# Altium footprint library Package_TO_SOT_THT.PcbLib: 236 footprints (part 12 of 15)
Each footprint in its own frame and in the unit in brackets; x right, y up, seen from the top. Pads: shape width x height; smd on the part's side, far side on the other; paste and mask are expansions set on the pad; w line width, h text height; cw(c..) or ccw(c..) is an arc to the next point about the centre after c.
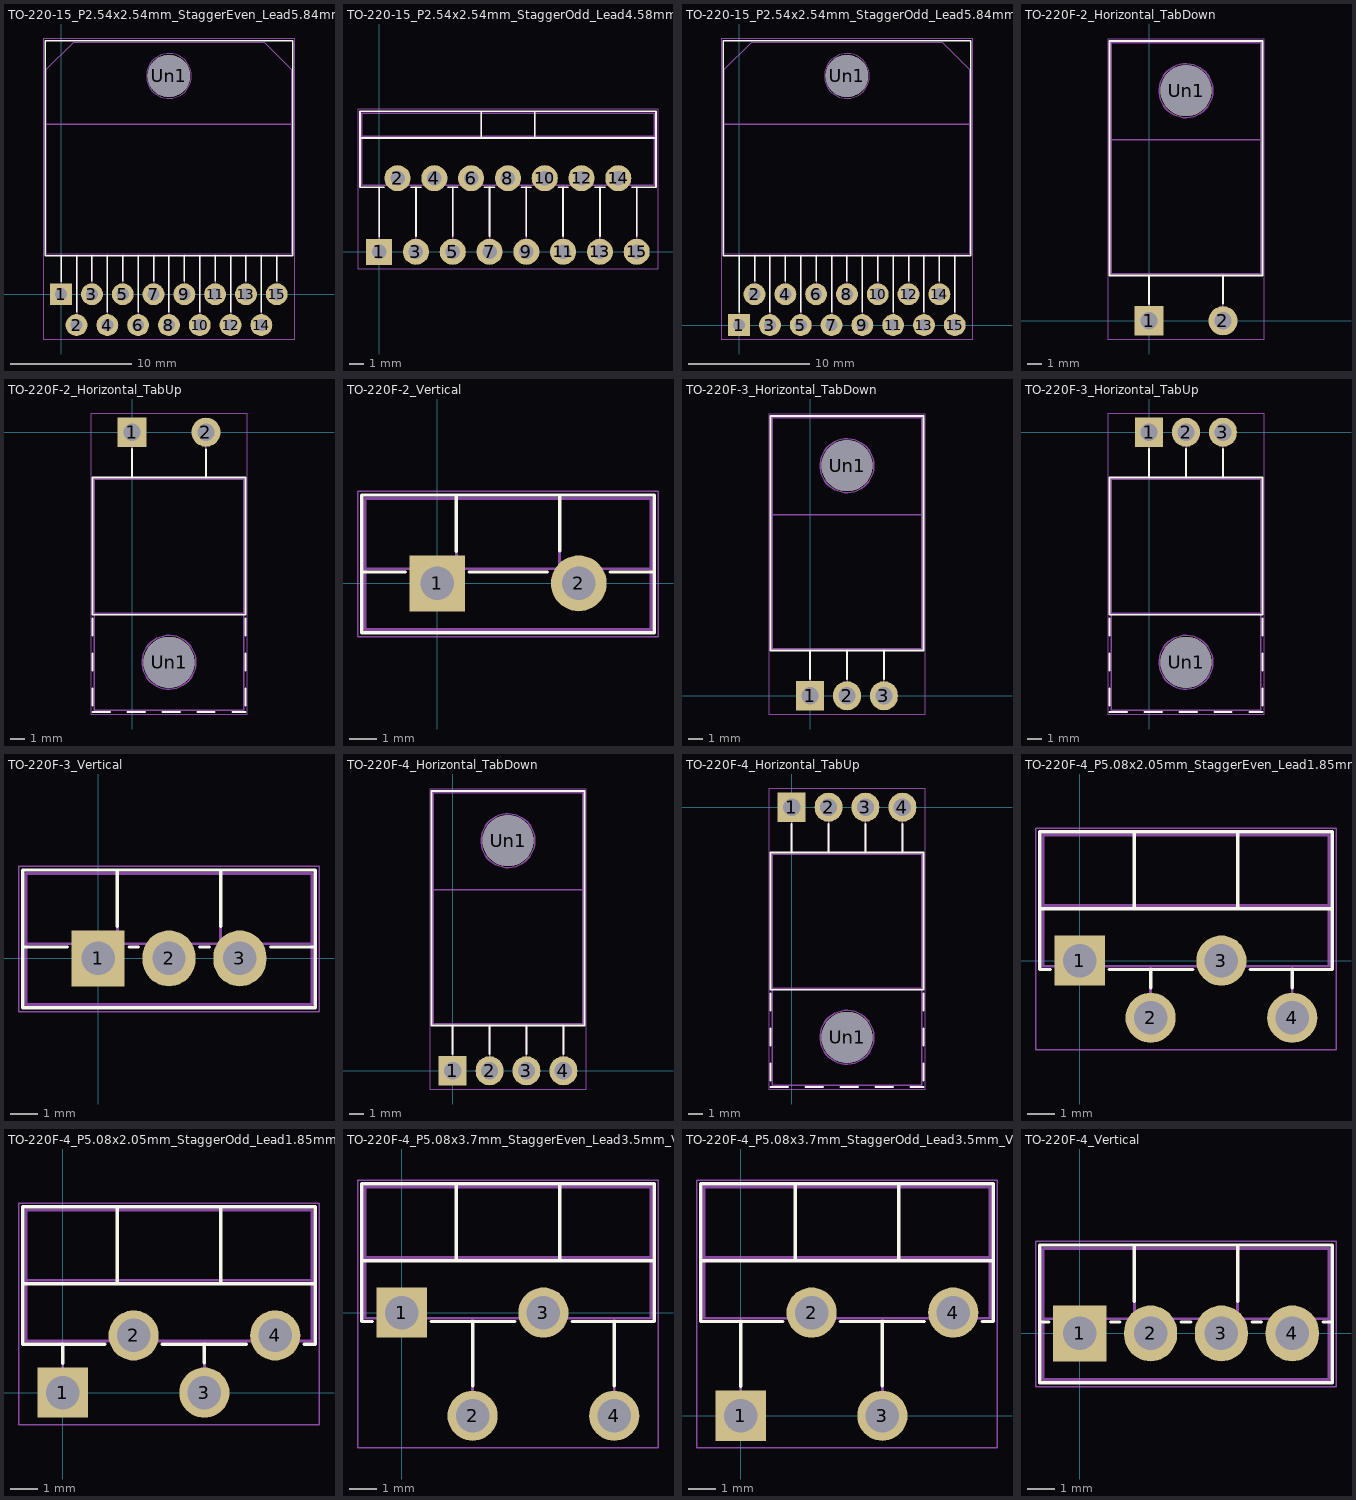
[diagram p11: the footprints below, top view; thin cyan lines are the x and y axes]

## TO-220-15_P2.54x2.54mm_StaggerEven_Lead5.84mm_TabDown [mm]
pads (16):
  rect 1.8x1.8 hole 1: 1(0,0)
  rrect100% 1.8x1.8 hole 1: 2(1.27,-2.54) 3(2.54,0) 4(3.81,-2.54) 5(5.08,0) 6(6.35,-2.54) 7(7.62,0) 8(8.89,-2.54) 9(10.16,0) 10(11.43,-2.54) 11(12.7,0) 12(13.97,-2.54) 13(15.24,0) 14(16.51,-2.54) 15(17.78,0)
  rrect100% 3.5x3.5 hole 3.5: Un1(8.89,18)
F.SilkS:
  lines w0.12: 0,1.05 0,3.18 ; 1.27,-1.475 1.27,3.18 ; 2.54,1.066 2.54,3.18 ; 3.81,-1.475 3.81,3.18 ; 5.08,1.066 5.08,3.18 ; 6.35,-1.475 6.35,3.18 ; 7.62,1.066 7.62,3.18 ; 8.89,-1.475 8.89,3.18 ; 10.16,1.066 10.16,3.18 ; 11.43,-1.475 11.43,3.18 ; 12.7,1.066 12.7,3.18 ; 13.97,-1.475 13.97,3.18 ; 15.24,1.066 15.24,3.18 ; 16.51,-1.475 16.51,3.18 ; 17.78,1.066 17.78,3.18 ; -1.33,3.18 -1.33,20.92 19.11,20.92 19.11,3.18 -1.33,3.18
F.CrtYd:
  lines w0.05: -1.46,-3.69 19.25,-3.69 19.25,21.05 -1.46,21.05 -1.46,-3.69
F.Fab:
  circle w0.1: c8.89,18 r1.85
  lines w0.1: 0,0 0,3.3 ; 1.27,-2.54 1.27,3.3 ; 2.54,0 2.54,3.3 ; 3.81,-2.54 3.81,3.3 ; 5.08,0 5.08,3.3 ; 6.35,-2.54 6.35,3.3 ; 7.62,0 7.62,3.3 ; 8.89,-2.54 8.89,3.3 ; 10.16,0 10.16,3.3 ; 11.43,-2.54 11.43,3.3 ; 12.7,0 12.7,3.3 ; 13.97,-2.54 13.97,3.3 ; 15.24,0 15.24,3.3 ; 16.51,-2.54 16.51,3.3 ; 17.78,0 17.78,3.3 ; -1.21,14 -1.21,3.3 18.99,3.3 18.99,14 ; -1.21,14 18.99,14 ; -1.21,14 -1.21,18.55 1.041,20.8 16.74,20.8 18.99,18.55 18.99,14 ; -1.21,14 18.99,14
  text "'.Designator'" at 4.843,21.08 h1

## TO-220-15_P2.54x2.54mm_StaggerOdd_Lead4.58mm_Vertical [mm]
pads (15):
  rect 1.8x1.8 hole 1: 1(0,0)
  rrect100% 1.8x1.8 hole 1: 2(1.27,5.08) 3(2.54,0) 4(3.81,5.08) 5(5.08,0) 6(6.35,5.08) 7(7.62,0) 8(8.89,5.08) 9(10.16,0) 10(11.43,5.08) 11(12.7,0) 12(13.97,5.08) 13(15.24,0) 14(16.51,5.08) 15(17.78,0)
F.SilkS:
  lines w0.12: -1.33,7.86 19.11,7.86 ; 0,1.05 0,4.459 ; 0.346,4.459 -1.33,4.459 -1.33,9.7 19.11,9.7 19.11,4.459 17.435,4.459 ; 2.195,4.459 2.886,4.459 ; 2.54,1.065 2.54,4.459 ; 4.735,4.459 5.426,4.459 ; 5.08,1.065 5.08,4.459 ; 7.041,7.86 7.041,9.7 ; 7.275,4.459 7.966,4.459 ; 7.62,1.065 7.62,4.459 ; 9.815,4.459 10.506,4.459 ; 10.16,1.065 10.16,4.459 ; 10.74,7.86 10.74,9.7 ; 12.355,4.459 13.046,4.459 ; 12.7,1.065 12.7,4.459 ; 14.895,4.459 15.586,4.459 ; 15.24,1.065 15.24,4.459 ; 17.78,1.065 17.78,4.459
F.CrtYd:
  lines w0.05: -1.46,-1.16 -1.46,9.83 19.25,9.83 19.25,-1.16 -1.46,-1.16
F.Fab:
  lines w0.1: -1.21,7.98 18.99,7.98 ; 0,0 0,4.58 ; 2.54,0 2.54,4.58 ; 5.08,0 5.08,4.58 ; 7.04,7.98 7.04,9.58 ; 7.62,0 7.62,4.58 ; 10.16,0 10.16,4.58 ; 10.74,7.98 10.74,9.58 ; 12.7,0 12.7,4.58 ; 15.24,0 15.24,4.58 ; 17.78,0 17.78,4.58 ; -1.21,4.58 18.99,4.58 18.99,9.58 -1.21,9.58 -1.21,4.58
  text "'.Designator'" at 4.843,9.86 h1

## TO-220-15_P2.54x2.54mm_StaggerOdd_Lead5.84mm_TabDown [mm]
pads (16):
  rect 1.8x1.8 hole 1: 1(0,0)
  rrect100% 1.8x1.8 hole 1: 2(1.27,2.54) 3(2.54,0) 4(3.81,2.54) 5(5.08,0) 6(6.35,2.54) 7(7.62,0) 8(8.89,2.54) 9(10.16,0) 10(11.43,2.54) 11(12.7,0) 12(13.97,2.54) 13(15.24,0) 14(16.51,2.54) 15(17.78,0)
  rrect100% 3.5x3.5 hole 3.5: Un1(8.89,20.54)
F.SilkS:
  lines w0.12: 0,1.05 0,5.72 ; 1.27,3.606 1.27,5.72 ; 2.54,1.065 2.54,5.72 ; 3.81,3.606 3.81,5.72 ; 5.08,1.065 5.08,5.72 ; 6.35,3.606 6.35,5.72 ; 7.62,1.065 7.62,5.72 ; 8.89,3.606 8.89,5.72 ; 10.16,1.065 10.16,5.72 ; 11.43,3.606 11.43,5.72 ; 12.7,1.065 12.7,5.72 ; 13.97,3.606 13.97,5.72 ; 15.24,1.065 15.24,5.72 ; 16.51,3.606 16.51,5.72 ; 17.78,1.065 17.78,5.72 ; -1.33,5.72 19.11,5.72 19.11,23.46 -1.33,23.46 -1.33,5.72
F.CrtYd:
  lines w0.05: -1.46,-1.15 -1.46,23.59 19.25,23.59 19.25,-1.15 -1.46,-1.15
F.Fab:
  circle w0.1: c8.89,20.54 r1.85
  lines w0.1: 0,0 0,5.84 ; 1.27,2.54 1.27,5.84 ; 2.54,0 2.54,5.84 ; 3.81,2.54 3.81,5.84 ; 5.08,0 5.08,5.84 ; 6.35,2.54 6.35,5.84 ; 7.62,0 7.62,5.84 ; 8.89,2.54 8.89,5.84 ; 10.16,0 10.16,5.84 ; 11.43,2.54 11.43,5.84 ; 12.7,0 12.7,5.84 ; 13.97,2.54 13.97,5.84 ; 15.24,0 15.24,5.84 ; 16.51,2.54 16.51,5.84 ; 17.78,0 17.78,5.84 ; -1.21,16.54 -1.21,5.84 18.99,5.84 18.99,16.54 ; -1.21,16.54 18.99,16.54 ; -1.21,16.54 -1.21,21.09 1.041,23.34 16.74,23.34 18.99,21.09 18.99,16.54 ; -1.21,16.54 18.99,16.54
  text "'.Designator'" at 4.843,23.62 h1

## TO-220F-2_Horizontal_TabDown [mm]
pads (3):
  rect 2x2 hole 1.2: 1(0,0)
  rrect100% 2x2 hole 1.2: 2(5.08,0)
  rrect100% 3.5x3.5 hole 3.5: Un1(2.54,15.8)
F.SilkS:
  lines w0.12: 0,1.15 0,3.11 ; 5.08,1.165 5.08,3.11 ; -2.71,3.11 -2.71,19.22 7.79,19.22 7.79,3.11 -2.71,3.11
F.CrtYd:
  lines w0.05: -2.84,-1.25 7.92,-1.25 7.92,19.35 -2.84,19.35 -2.84,-1.25
F.Fab:
  circle w0.1: c2.54,15.8 r1.85
  lines w0.1: 0,0 0,3.23 ; 5.08,0 5.08,3.23 ; -2.59,12.42 -2.59,3.23 7.67,3.23 7.67,12.42 ; -2.59,12.42 7.67,12.42 ; -2.59,12.42 7.67,12.42 ; -2.59,12.42 -2.59,19.1 7.67,19.1 7.67,12.42
  text "'.Designator'" at -1.507,19.38 h1

## TO-220F-2_Horizontal_TabUp [mm]
pads (3):
  rect 2x2 hole 1.2: 1(0,0)
  rrect100% 2x2 hole 1.2: 2(5.08,0)
  rrect100% 3.5x3.5 hole 3.5: Un1(2.54,-15.8)
F.SilkS:
  lines w0.12: -2.71,-19.22 -1.51,-19.22 ; -2.71,-18.78 -2.71,-17.58 ; -2.71,-16.38 -2.71,-15.18 ; -2.71,-13.98 -2.71,-12.78 ; -0.311,-19.22 0.89,-19.22 ; 0,-3.11 0,-1.15 ; 2.09,-19.22 3.29,-19.22 ; 4.49,-19.22 5.69,-19.22 ; 5.08,-3.11 5.08,-1.165 ; 6.89,-19.22 7.79,-19.22 ; 7.79,-18.78 7.79,-17.58 ; 7.79,-16.38 7.79,-15.18 ; 7.79,-13.98 7.79,-12.78 ; -2.71,-12.54 -2.71,-3.11 7.79,-3.11 7.79,-12.54 -2.71,-12.54
F.CrtYd:
  lines w0.05: -2.84,-19.35 7.92,-19.35 7.92,1.25 -2.84,1.25 -2.84,-19.35
F.Fab:
  circle w0.1: c2.54,-15.8 r1.85
  lines w0.1: 0,-3.23 0,0 ; 5.08,-3.23 5.08,0 ; -2.59,-12.42 -2.59,-19.1 7.67,-19.1 7.67,-12.42 ; -2.59,-12.42 7.67,-12.42 ; -2.59,-12.42 7.67,-12.42 ; -2.59,-12.42 -2.59,-3.23 7.67,-3.23 7.67,-12.42
  text "'.Designator'" at -1.507,-21.06 h1

## TO-220F-2_Vertical [mm]
pads (2):
  rect 2x2 hole 1.2: 1(0,0)
  rrect100% 2x2 hole 1.2: 2(5.08,0)
F.SilkS:
  lines w0.12: -2.71,0.408 -1.15,0.408 ; 0.69,1.15 0.69,3.168 ; 1.15,0.408 3.952,0.408 ; 4.391,1.165 4.391,3.168 ; 6.209,0.408 7.79,0.408 ; -2.71,-1.773 -2.71,3.168 7.79,3.168 7.79,-1.773 -2.71,-1.773
F.CrtYd:
  lines w0.05: -2.84,-1.91 -2.84,3.3 7.92,3.3 7.92,-1.91 -2.84,-1.91
F.Fab:
  lines w0.1: -2.59,0.527 7.67,0.527 ; 0.69,0.527 0.69,3.047 ; 4.39,0.527 4.39,3.047 ; -2.59,-1.653 -2.59,3.047 7.67,3.047 7.67,-1.653 -2.59,-1.653
  text "'.Designator'" at -1.507,3.327 h1

## TO-220F-3_Horizontal_TabDown [mm]
pads (4):
  rect 1.905x2 hole 1.2: 1(0,0)
  rrect100% 1.905x2 hole 1.2: 2(2.54,0) 3(5.08,0)
  rrect100% 3.5x3.5 hole 3.5: Un1(2.54,15.8)
F.SilkS:
  lines w0.12: 0,1.15 0,3.11 ; 2.54,1.15 2.54,3.11 ; 5.08,1.15 5.08,3.11 ; -2.71,3.11 7.79,3.11 7.79,19.22 -2.71,19.22 -2.71,3.11
F.CrtYd:
  lines w0.05: -2.84,-1.25 7.92,-1.25 7.92,19.35 -2.84,19.35 -2.84,-1.25
F.Fab:
  circle w0.1: c2.54,15.8 r1.85
  lines w0.1: 0,0 0,3.23 ; 2.54,0 2.54,3.23 ; 5.08,0 5.08,3.23 ; -2.59,12.42 -2.59,19.1 7.67,19.1 7.67,12.42 ; -2.59,12.42 7.67,12.42 ; -2.59,12.42 7.67,12.42 ; -2.59,12.42 -2.59,3.23 7.67,3.23 7.67,12.42
  text "'.Designator'" at -1.507,19.38 h1

## TO-220F-3_Horizontal_TabUp [mm]
pads (4):
  rect 1.905x2 hole 1.2: 1(0,0)
  rrect100% 1.905x2 hole 1.2: 2(2.54,0) 3(5.08,0)
  rrect100% 3.5x3.5 hole 3.5: Un1(2.54,-15.8)
F.SilkS:
  lines w0.12: -2.71,-19.22 -1.51,-19.22 ; -2.71,-18.78 -2.71,-17.58 ; -2.71,-16.38 -2.71,-15.18 ; -2.71,-13.98 -2.71,-12.78 ; -0.311,-19.22 0.89,-19.22 ; 0,-3.11 0,-1.15 ; 2.09,-19.22 3.29,-19.22 ; 2.54,-3.11 2.54,-1.15 ; 4.49,-19.22 5.69,-19.22 ; 5.08,-3.11 5.08,-1.15 ; 6.89,-19.22 7.79,-19.22 ; 7.79,-18.78 7.79,-17.58 ; 7.79,-16.38 7.79,-15.18 ; 7.79,-13.98 7.79,-12.78 ; -2.71,-12.54 -2.71,-3.11 7.79,-3.11 7.79,-12.54 -2.71,-12.54
F.CrtYd:
  lines w0.05: -2.84,-19.35 7.92,-19.35 7.92,1.25 -2.84,1.25 -2.84,-19.35
F.Fab:
  circle w0.1: c2.54,-15.8 r1.85
  lines w0.1: 0,-3.23 0,0 ; 2.54,-3.23 2.54,0 ; 5.08,-3.23 5.08,0 ; -2.59,-12.42 7.67,-12.42 ; -2.59,-12.42 7.67,-12.42 ; -2.59,-12.42 -2.59,-3.23 7.67,-3.23 7.67,-12.42 ; -2.59,-12.42 -2.59,-19.1 7.67,-19.1 7.67,-12.42
  text "'.Designator'" at -1.507,-21.06 h1

## TO-220F-3_Vertical [mm]
pads (3):
  rect 1.905x2 hole 1.2: 1(0,0)
  rrect100% 1.905x2 hole 1.2: 2(2.54,0) 3(5.08,0)
F.SilkS:
  lines w0.12: -2.71,0.408 -1.103,0.408 ; 0.69,1.15 0.69,3.168 ; 1.103,0.408 1.438,0.408 ; 3.643,0.408 3.978,0.408 ; 4.391,1.15 4.391,3.168 ; 6.183,0.408 7.79,0.408 ; -2.71,-1.773 -2.71,3.168 7.79,3.168 7.79,-1.773 -2.71,-1.773
F.CrtYd:
  lines w0.05: -2.84,-1.91 7.92,-1.91 7.92,3.3 -2.84,3.3 -2.84,-1.91
F.Fab:
  lines w0.1: -2.59,0.527 7.67,0.527 ; 0.69,0.527 0.69,3.047 ; 4.39,0.527 4.39,3.047 ; -2.59,-1.653 -2.59,3.047 7.67,3.047 7.67,-1.653 -2.59,-1.653
  text "'.Designator'" at -1.507,3.327 h1

## TO-220F-4_Horizontal_TabDown [mm]
pads (5):
  rect 1.905x2 hole 1.2: 1(0,0)
  rrect100% 1.905x2 hole 1.2: 2(2.54,0) 3(5.08,0) 4(7.62,0)
  rrect100% 3.5x3.5 hole 3.5: Un1(3.81,15.8)
F.SilkS:
  lines w0.12: 0,1.15 0,3.11 ; 2.54,1.15 2.54,3.11 ; 5.08,1.15 5.08,3.11 ; 7.62,1.15 7.62,3.11 ; -1.44,3.11 9.06,3.11 9.06,19.22 -1.44,19.22 -1.44,3.11
F.CrtYd:
  lines w0.05: -1.57,-1.25 -1.57,19.35 9.19,19.35 9.19,-1.25 -1.57,-1.25
F.Fab:
  circle w0.1: c3.81,15.8 r1.85
  lines w0.1: 0,0 0,3.23 ; 2.54,0 2.54,3.23 ; 5.08,0 5.08,3.23 ; 7.62,0 7.62,3.23 ; -1.32,12.42 -1.32,19.1 8.94,19.1 8.94,12.42 ; -1.32,12.42 8.94,12.42 ; -1.32,12.42 8.94,12.42 ; -1.32,12.42 -1.32,3.23 8.94,3.23 8.94,12.42
  text "'.Designator'" at -0.237,19.38 h1

## TO-220F-4_Horizontal_TabUp [mm]
pads (5):
  rect 1.905x2 hole 1.2: 1(0,0)
  rrect100% 1.905x2 hole 1.2: 2(2.54,0) 3(5.08,0) 4(7.62,0)
  rrect100% 3.5x3.5 hole 3.5: Un1(3.81,-15.8)
F.SilkS:
  lines w0.12: -1.44,-19.22 -0.24,-19.22 ; -1.44,-18.78 -1.44,-17.58 ; -1.44,-16.38 -1.44,-15.18 ; -1.44,-13.98 -1.44,-12.78 ; 0,-3.11 0,-1.15 ; 0.96,-19.22 2.16,-19.22 ; 2.54,-3.11 2.54,-1.15 ; 3.361,-19.22 4.56,-19.22 ; 5.08,-3.11 5.08,-1.15 ; 5.761,-19.22 6.961,-19.22 ; 7.62,-3.11 7.62,-1.15 ; 8.16,-19.22 9.06,-19.22 ; 9.06,-18.78 9.06,-17.58 ; 9.06,-16.38 9.06,-15.18 ; 9.06,-13.98 9.06,-12.78 ; -1.44,-12.54 -1.44,-3.11 9.06,-3.11 9.06,-12.54 -1.44,-12.54
F.CrtYd:
  lines w0.05: -1.57,-19.35 -1.57,1.25 9.19,1.25 9.19,-19.35 -1.57,-19.35
F.Fab:
  circle w0.1: c3.81,-15.8 r1.85
  lines w0.1: 0,-3.23 0,0 ; 2.54,-3.23 2.54,0 ; 5.08,-3.23 5.08,0 ; 7.62,-3.23 7.62,0 ; -1.32,-12.42 -1.32,-19.1 8.94,-19.1 8.94,-12.42 ; -1.32,-12.42 8.94,-12.42 ; -1.32,-12.42 -1.32,-3.23 8.94,-3.23 8.94,-12.42 ; -1.32,-12.42 8.94,-12.42
  text "'.Designator'" at -0.237,-21.06 h1

## TO-220F-4_P5.08x2.05mm_StaggerEven_Lead1.85mm_Vertical [mm]
pads (4):
  rect 1.8x1.8 hole 1.2: 1(0,0)
  rrect100% 1.8x1.8 hole 1.2: 2(2.54,-2.05) 3(5.08,0) 4(7.62,-2.05)
F.SilkS:
  lines w0.12: -1.44,1.861 9.06,1.861 ; -1.05,-0.321 -1.44,-0.321 -1.44,4.62 9.06,4.62 9.06,-0.321 6.112,-0.321 ; 1.05,-0.321 4.049,-0.321 ; 1.96,1.861 1.96,4.62 ; 2.54,-0.985 2.54,-0.321 ; 5.66,1.861 5.66,4.62 ; 7.62,-0.985 7.62,-0.321
F.CrtYd:
  lines w0.05: -1.57,-3.2 -1.57,4.75 9.19,4.75 9.19,-3.2 -1.57,-3.2
F.Fab:
  lines w0.1: -1.32,1.98 8.94,1.98 ; 1.96,1.98 1.96,4.5 ; 2.54,-2.05 2.54,-0.2 ; 5.66,1.98 5.66,4.5 ; 7.62,-2.05 7.62,-0.2 ; -1.32,-0.2 8.94,-0.2 8.94,4.5 -1.32,4.5 -1.32,-0.2
  text "'.Designator'" at -0.237,4.78 h1

## TO-220F-4_P5.08x2.05mm_StaggerOdd_Lead1.85mm_Vertical [mm]
pads (4):
  rect 1.8x1.8 hole 1.2: 1(0,0)
  rrect100% 1.8x1.8 hole 1.2: 2(2.54,2.05) 3(5.08,0) 4(7.62,2.05)
F.SilkS:
  lines w0.12: -1.44,3.911 9.06,3.911 ; 0,1.05 0,1.729 ; 1.509,1.729 -1.44,1.729 -1.44,6.67 9.06,6.67 9.06,1.729 8.652,1.729 ; 1.96,3.911 1.96,6.67 ; 3.572,1.729 6.589,1.729 ; 5.08,1.065 5.08,1.729 ; 5.66,3.911 5.66,6.67
F.CrtYd:
  lines w0.05: -1.57,-1.16 9.19,-1.16 9.19,6.8 -1.57,6.8 -1.57,-1.16
F.Fab:
  lines w0.1: -1.32,4.03 8.94,4.03 ; 0,0 0,1.85 ; 1.96,4.03 1.96,6.55 ; 5.08,0 5.08,1.85 ; 5.66,4.03 5.66,6.55 ; -1.32,1.85 -1.32,6.55 8.94,6.55 8.94,1.85 -1.32,1.85
  text "'.Designator'" at -0.237,6.83 h1

## TO-220F-4_P5.08x3.7mm_StaggerEven_Lead3.5mm_Vertical [mm]
pads (4):
  rect 1.8x1.8 hole 1.2: 1(0,0)
  rrect100% 1.8x1.8 hole 1.2: 2(2.54,-3.7) 3(5.08,0) 4(7.62,-3.7)
F.SilkS:
  lines w0.12: -1.44,1.861 9.06,1.861 ; -1.05,-0.321 -1.44,-0.321 -1.44,4.62 9.06,4.62 9.06,-0.321 6.112,-0.321 ; 1.05,-0.321 4.049,-0.321 ; 1.96,1.861 1.96,4.62 ; 2.54,-2.635 2.54,-0.321 ; 5.66,1.861 5.66,4.62 ; 7.62,-2.635 7.62,-0.321
F.CrtYd:
  lines w0.05: -1.57,-4.85 -1.57,4.75 9.19,4.75 9.19,-4.85 -1.57,-4.85
F.Fab:
  lines w0.1: -1.32,1.98 8.94,1.98 ; 1.96,1.98 1.96,4.5 ; 2.54,-3.7 2.54,-0.2 ; 5.66,1.98 5.66,4.5 ; 7.62,-3.7 7.62,-0.2 ; -1.32,-0.2 -1.32,4.5 8.94,4.5 8.94,-0.2 -1.32,-0.2
  text "'.Designator'" at -0.237,4.78 h1

## TO-220F-4_P5.08x3.7mm_StaggerOdd_Lead3.5mm_Vertical [mm]
pads (4):
  rect 1.8x1.8 hole 1.2: 1(0,0)
  rrect100% 1.8x1.8 hole 1.2: 2(2.54,3.7) 3(5.08,0) 4(7.62,3.7)
F.SilkS:
  lines w0.12: -1.44,5.561 9.06,5.561 ; 0,1.049 0,3.379 ; 1.509,3.379 -1.44,3.379 -1.44,8.32 9.06,8.32 9.06,3.379 8.652,3.379 ; 1.96,5.561 1.96,8.32 ; 3.572,3.379 6.589,3.379 ; 5.08,1.065 5.08,3.379 ; 5.66,5.561 5.66,8.32
F.CrtYd:
  lines w0.05: -1.57,-1.15 9.19,-1.15 9.19,8.45 -1.57,8.45 -1.57,-1.15
F.Fab:
  lines w0.1: -1.32,5.68 8.94,5.68 ; 0,0 0,3.5 ; 1.96,5.68 1.96,8.2 ; 5.08,0 5.08,3.5 ; 5.66,5.68 5.66,8.2 ; -1.32,3.5 8.94,3.5 8.94,8.2 -1.32,8.2 -1.32,3.5
  text "'.Designator'" at -0.237,8.48 h1

## TO-220F-4_Vertical [mm]
pads (4):
  rect 1.905x2 hole 1.2: 1(0,0)
  rrect100% 1.905x2 hole 1.2: 2(2.54,0) 3(5.08,0) 4(7.62,0)
F.SilkS:
  lines w0.12: -1.44,0.408 -1.103,0.408 ; 1.103,0.408 1.438,0.408 ; 1.96,1.15 1.96,3.168 ; 3.643,0.408 3.978,0.408 ; 5.66,1.15 5.66,3.168 ; 6.183,0.408 6.518,0.408 ; 8.723,0.408 9.06,0.408 ; -1.44,-1.773 9.06,-1.773 9.06,3.168 -1.44,3.168 -1.44,-1.773
F.CrtYd:
  lines w0.05: -1.57,-1.91 9.19,-1.91 9.19,3.3 -1.57,3.3 -1.57,-1.91
F.Fab:
  lines w0.1: -1.32,0.527 8.94,0.527 ; 1.96,0.527 1.96,3.047 ; 5.66,0.527 5.66,3.047 ; -1.32,-1.653 8.94,-1.653 8.94,3.047 -1.32,3.047 -1.32,-1.653
  text "'.Designator'" at -0.237,3.327 h1